# Altium footprint library SN74LVC4245ADBR.PcbLib: 3 footprints
Each footprint in its own frame and in the unit in brackets; x right, y up, seen from the top. Pads: shape width x height; smd on the part's side, far side on the other; paste and mask are expansions set on the pad; w line width, h text height; cw(c..) or ccw(c..) is an arc to the next point about the centre after c.
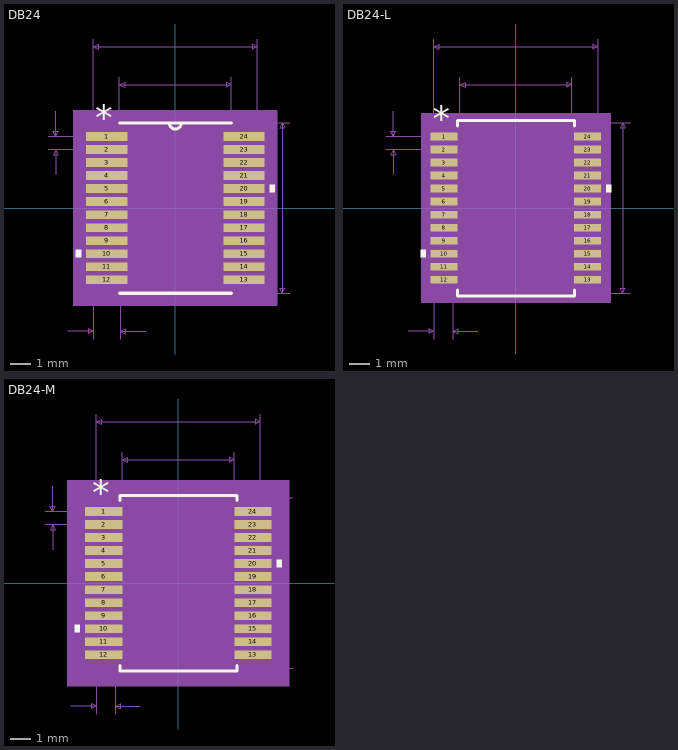
[diagram p0: the footprints below, top view; thin cyan lines are the x and y axes]

## DB24 [mil]
pads (24):
  rect 81x17 smd: 1(-135,140.75) 2(-135,115.16) 3(-135,89.57) 4(-135,63.98) 5(-135,38.39) 6(-135,12.8) 7(-135,-12.8) 8(-135,-38.39) 9(-135,-63.98) 10(-135,-89.57) 11(-135,-115.16) 12(-135,-140.75) 13(135,-140.75) 14(135,-115.16) 15(135,-89.57) 16(135,-63.98) 17(135,-38.39) 18(135,-12.8) 19(135,12.8) 20(135,38.39) 21(135,63.98) 22(135,89.57) 23(135,115.16) 24(135,140.75)
Top Overlay:
  region: -185.5,-82.07 -195.5,-82.07 -195.5,-97.07 -185.5,-97.07
  region: 185.5,45.89 195.5,45.89 195.5,30.89 185.5,30.89
  lines w6: -110,-167.5 110,-167.5 ; -110,167.5 110,167.5 ; -12,167.5 ccw(c0,167.5) 12,167.5
  text "*" at -157.5,152.75 h50
Mechanical 5:
  region: 200.5,-192.5 -200.5,-192.5 -200.5,192.5 200.5,192.5
Mechanical 7:
  lines w1: -250,115.16 -135,115.16 ; -250,140.75 -135,140.75 ; -235,65.16 -235,115.16 ; -235,190.75 -235,140.75 ; -211.5,-242.5 -161.5,-242.5 ; -161.5,-257.5 -161.5,0 -161.5,332.5 ; -110,0 -110,257.5 ; -108.5,-257.5 -108.5,0 ; -58.5,-242.5 -108.5,-242.5 ; 0,-167.5 225,-167.5 ; 0,167.5 225,167.5 ; 110,0 110,257.5 ; 161.5,0 161.5,332.5 ; -235,115.16 -240,105.16 -230,105.16 -235,115.16 ; -235,140.75 -240,150.75 -230,150.75 -235,140.75 ; -161.5,-242.5 -171.5,-237.5 -171.5,-247.5 -161.5,-242.5 ; -161.5,317.5 161.5,317.5 ; -161.5,317.5 -151.5,322.5 -151.5,312.5 -161.5,317.5 ; -110,242.5 110,242.5 ; -110,242.5 -100,247.5 -100,237.5 -110,242.5 ; -108.5,-242.5 -98.5,-237.5 -98.5,-247.5 -108.5,-242.5 ; 110,242.5 100,247.5 100,237.5 110,242.5 ; 161.5,317.5 151.5,322.5 151.5,312.5 161.5,317.5 ; 210,-167.5 210,167.5 ; 210,-167.5 205,-157.5 215,-157.5 210,-167.5 ; 210,167.5 205,157.5 215,157.5 210,167.5
  text "Default Padstyle: RX81Y17D0T" at -350,-367.5 h50
  text "Pin One Padstyle: RX81Y17D0T" at -350,-442.5 h50
  text "Alt 1 Padstyle: OX60Y90D30P" at -337.5,-517.5 h50
  text "Alt 2 Padstyle: OX90Y60D30P" at -337.5,-592.5 h50
  text ".22in/5.588mm" at -81.25,262.5 h25
  text ".323in/8.204mm" at -87.5,337.5 h25
  text ".335in/8.509mm" at 230,-12.5 h25
  text "2.559055E-02in/.65mm" at -505,115.45 h25
  text ".037in/.94mm" at -210,-287.5 h25
Mechanical 13:
  lines w0: -12,167.5 ccw(c0,167.5) 12,167.5
  lines w1: -161.5,-148.25 -161.5,-133.25 -110,-133.25 -110,-148.25 -161.5,-148.25 ; -161.5,-122.66 -161.5,-107.66 -110,-107.66 -110,-122.66 -161.5,-122.66 ; -161.5,-97.07 -161.5,-82.07 -110,-82.07 -110,-97.07 -161.5,-97.07 ; -161.5,-71.48 -161.5,-56.48 -110,-56.48 -110,-71.48 -161.5,-71.48 ; -161.5,-45.89 -161.5,-30.89 -110,-30.89 -110,-45.89 -161.5,-45.89 ; -161.5,-20.3 -161.5,-5.3 -110,-5.3 -110,-20.3 -161.5,-20.3 ; -161.5,5.3 -161.5,20.3 -110,20.3 -110,5.3 -161.5,5.3 ; -161.5,30.89 -161.5,45.89 -110,45.89 -110,30.89 -161.5,30.89 ; -161.5,56.48 -161.5,71.48 -110,71.48 -110,56.48 -161.5,56.48 ; -161.5,82.07 -161.5,97.07 -110,97.07 -110,82.07 -161.5,82.07 ; -161.5,107.66 -161.5,122.66 -110,122.66 -110,107.66 -161.5,107.66 ; -161.5,133.25 -161.5,148.25 -110,148.25 -110,133.25 -161.5,133.25 ; -110,-167.5 110,-167.5 110,167.5 -110,167.5 -110,-167.5 ; 110,-148.25 110,-133.25 161.5,-133.25 161.5,-148.25 110,-148.25 ; 110,-122.66 110,-107.66 161.5,-107.66 161.5,-122.66 110,-122.66 ; 110,-97.07 110,-82.07 161.5,-82.07 161.5,-97.07 110,-97.07 ; 110,-71.48 110,-56.48 161.5,-56.48 161.5,-71.48 110,-71.48 ; 110,-45.89 110,-30.89 161.5,-30.89 161.5,-45.89 110,-45.89 ; 110,-20.3 110,-5.3 161.5,-5.3 161.5,-20.3 110,-20.3 ; 110,5.3 110,20.3 161.5,20.3 161.5,5.3 110,5.3 ; 110,30.89 110,45.89 161.5,45.89 161.5,30.89 110,30.89 ; 110,56.48 110,71.48 161.5,71.48 161.5,56.48 110,56.48 ; 110,82.07 110,97.07 161.5,97.07 161.5,82.07 110,82.07 ; 110,107.66 110,122.66 161.5,122.66 161.5,107.66 110,107.66 ; 110,133.25 110,148.25 161.5,148.25 161.5,133.25 110,133.25
  text "*" at -157.5,152.75 h50
Mechanical 15:
  region: 185.5,-177.5 -185.5,-177.5 -185.5,177.5 185.5,177.5
  lines w6: -185.5,-177.5 -185.5,177.5 185.5,177.5 185.5,-177.5 -185.5,-177.5
3D body: height 10, standoff 0, extent 0,0 10,10

## DB24-L [mil]
pads (24):
  rect 53x15 smd paste+0 mask+0: 1(-141,140.75) 2(-141,115.16) 3(-141,89.57) 4(-141,63.98) 5(-141,38.39) 6(-141,12.8) 7(-141,-12.8) 8(-141,-38.39) 9(-141,-63.98) 10(-141,-89.57) 11(-141,-115.16) 12(-141,-140.75) 13(141,-140.75) 14(141,-115.16) 15(141,-89.57) 16(141,-63.98) 17(141,-38.39) 18(141,-12.8) 19(141,12.8) 20(141,38.39) 21(141,63.98) 22(141,89.57) 23(141,115.16) 24(141,140.75)
Top Overlay:
  region: -177.5,-82.07 -187.5,-82.07 -187.5,-97.07 -177.5,-97.07
  region: 177.5,45.89 187.5,45.89 187.5,30.89 177.5,30.89
  lines w6: -115,-161.35 -115,-172.5 115,-172.5 115,-161.35 ; -115,161.35 -115,172.5 115,172.5 115,161.35
  text "*" at -163.5,150.75 h50
Mechanical 5:
  region: 186.5,-186.5 -186.5,-186.5 -186.5,186.5 186.5,186.5
Mechanical 7:
  lines w1: -256,115.16 -141,115.16 ; -256,140.75 -141,140.75 ; -241,65.16 -241,115.16 ; -241,190.75 -241,140.75 ; -211.5,-242.5 -161.5,-242.5 ; -161.5,-257.5 -161.5,0 -161.5,332.5 ; -124.5,-257.5 -124.5,0 ; -110,0 -110,257.5 ; -74.5,-242.5 -124.5,-242.5 ; 0,-167.5 225,-167.5 ; 0,167.5 225,167.5 ; 110,0 110,257.5 ; 161.5,0 161.5,332.5 ; -241,115.16 -246,105.16 -236,105.16 -241,115.16 ; -241,140.75 -246,150.75 -236,150.75 -241,140.75 ; -161.5,-242.5 -171.5,-237.5 -171.5,-247.5 -161.5,-242.5 ; -161.5,317.5 161.5,317.5 ; -161.5,317.5 -151.5,322.5 -151.5,312.5 -161.5,317.5 ; -124.5,-242.5 -114.5,-237.5 -114.5,-247.5 -124.5,-242.5 ; -110,242.5 110,242.5 ; -110,242.5 -100,247.5 -100,237.5 -110,242.5 ; 110,242.5 100,247.5 100,237.5 110,242.5 ; 161.5,317.5 151.5,322.5 151.5,312.5 161.5,317.5 ; 210,-167.5 210,167.5 ; 210,-167.5 205,-157.5 215,-157.5 210,-167.5 ; 210,167.5 205,157.5 215,157.5 210,167.5
  text "Default Padstyle: RX53Y15D0T" at -350,-367.5 h50
  text "Pin One Padstyle: RX53Y15D0T" at -350,-427.5 h50
  text "Alt 1 Padstyle: OX60Y90D30P" at -337.5,-607.5 h50
  text "Alt 2 Padstyle: OX90Y60D30P" at -337.5,-667.5 h50
  text "0.22in/5.588mm" at -87.5,262.5 h25
  text "0.323in/8.204mm" at -93.75,337.5 h25
  text "0.335in/8.509mm" at 230,-12.5 h25
  text "0.026in/0.65mm" at -436,115.45 h25
  text "0.037in/0.94mm" at -230.5,-287.5 h25
Mechanical 13:
  lines w0: -12,167.5 ccw(c0,167.5) 12,167.5
  lines w1: -161.5,-148.25 -161.5,-133.25 -110,-133.25 -110,-148.25 -161.5,-148.25 ; -161.5,-122.66 -161.5,-107.66 -110,-107.66 -110,-122.66 -161.5,-122.66 ; -161.5,-97.07 -161.5,-82.07 -110,-82.07 -110,-97.07 -161.5,-97.07 ; -161.5,-71.48 -161.5,-56.48 -110,-56.48 -110,-71.48 -161.5,-71.48 ; -161.5,-45.89 -161.5,-30.89 -110,-30.89 -110,-45.89 -161.5,-45.89 ; -161.5,-20.3 -161.5,-5.3 -110,-5.3 -110,-20.3 -161.5,-20.3 ; -161.5,5.3 -161.5,20.3 -110,20.3 -110,5.3 -161.5,5.3 ; -161.5,30.89 -161.5,45.89 -110,45.89 -110,30.89 -161.5,30.89 ; -161.5,56.48 -161.5,71.48 -110,71.48 -110,56.48 -161.5,56.48 ; -161.5,82.07 -161.5,97.07 -110,97.07 -110,82.07 -161.5,82.07 ; -161.5,107.66 -161.5,122.66 -110,122.66 -110,107.66 -161.5,107.66 ; -161.5,133.25 -161.5,148.25 -110,148.25 -110,133.25 -161.5,133.25 ; -110,-167.5 110,-167.5 110,167.5 -110,167.5 -110,-167.5 ; 110,-148.25 110,-133.25 161.5,-133.25 161.5,-148.25 110,-148.25 ; 110,-122.66 110,-107.66 161.5,-107.66 161.5,-122.66 110,-122.66 ; 110,-97.07 110,-82.07 161.5,-82.07 161.5,-97.07 110,-97.07 ; 110,-71.48 110,-56.48 161.5,-56.48 161.5,-71.48 110,-71.48 ; 110,-45.89 110,-30.89 161.5,-30.89 161.5,-45.89 110,-45.89 ; 110,-20.3 110,-5.3 161.5,-5.3 161.5,-20.3 110,-20.3 ; 110,5.3 110,20.3 161.5,20.3 161.5,5.3 110,5.3 ; 110,30.89 110,45.89 161.5,45.89 161.5,30.89 110,30.89 ; 110,56.48 110,71.48 161.5,71.48 161.5,56.48 110,56.48 ; 110,82.07 110,97.07 161.5,97.07 161.5,82.07 110,82.07 ; 110,107.66 110,122.66 161.5,122.66 161.5,107.66 110,107.66 ; 110,133.25 110,148.25 161.5,148.25 161.5,133.25 110,133.25
  text "*" at -107.5,114.5 h50
Mechanical 15:
  region: -114,-152.25 -171.5,-152.25 -171.5,152.25 -114,152.25 -114,171.5 114,171.5 114,152.25 171.5,152.25 171.5,-152.25 114,-152.25 114,-171.5 -114,-171.5
  lines w6: -171.5,-152.25 -171.5,152.25 -114,152.25 -114,171.5 114,171.5 114,152.25 171.5,152.25 171.5,-152.25 114,-152.25 114,-171.5 -114,-171.5 -114,-152.25 -171.5,-152.25
3D body: height 10, standoff 0, extent 0,0 10,10

## DB24-M [mil]
pads (24):
  rect 73.5x17 smd paste+0 mask+0: 1(-146.75,140.75) 2(-146.75,115.16) 3(-146.75,89.57) 4(-146.75,63.98) 5(-146.75,38.39) 6(-146.75,12.8) 7(-146.75,-12.8) 8(-146.75,-38.39) 9(-146.75,-63.98) 10(-146.75,-89.57) 11(-146.75,-115.16) 12(-146.75,-140.75) 13(146.75,-140.75) 14(146.75,-115.16) 15(146.75,-89.57) 16(146.75,-63.98) 17(146.75,-38.39) 18(146.75,-12.8) 19(146.75,12.8) 20(146.75,38.39) 21(146.75,63.98) 22(146.75,89.57) 23(146.75,115.16) 24(146.75,140.75)
Top Overlay:
  region: -193.5,-82.07 -203.5,-82.07 -203.5,-97.07 -193.5,-97.07
  region: 193.5,45.89 203.5,45.89 203.5,30.89 193.5,30.89
  lines w6: -115,-162.35 -115,-172.5 115,-172.5 115,-162.35 ; -115,162.35 -115,172.5 115,172.5 115,162.35
  text "*" at -169.25,152.75 h50
Mechanical 5:
  region: 218.5,-202.5 -218.5,-202.5 -218.5,202.5 218.5,202.5
Mechanical 7:
  lines w1: -261.75,115.16 -146.75,115.16 ; -261.75,140.75 -146.75,140.75 ; -246.75,65.16 -246.75,115.16 ; -246.75,190.75 -246.75,140.75 ; -211.5,-242.5 -161.5,-242.5 ; -161.5,-257.5 -161.5,0 -161.5,332.5 ; -124.5,-257.5 -124.5,0 ; -110,0 -110,257.5 ; -74.5,-242.5 -124.5,-242.5 ; 0,-167.5 225,-167.5 ; 0,167.5 225,167.5 ; 110,0 110,257.5 ; 161.5,0 161.5,332.5 ; -246.75,115.16 -251.75,105.16 -241.75,105.16 -246.75,115.16 ; -246.75,140.75 -251.75,150.75 -241.75,150.75 -246.75,140.75 ; -161.5,-242.5 -171.5,-237.5 -171.5,-247.5 -161.5,-242.5 ; -161.5,317.5 161.5,317.5 ; -161.5,317.5 -151.5,322.5 -151.5,312.5 -161.5,317.5 ; -124.5,-242.5 -114.5,-237.5 -114.5,-247.5 -124.5,-242.5 ; -110,242.5 110,242.5 ; -110,242.5 -100,247.5 -100,237.5 -110,242.5 ; 110,242.5 100,247.5 100,237.5 110,242.5 ; 161.5,317.5 151.5,322.5 151.5,312.5 161.5,317.5 ; 210,-167.5 210,167.5 ; 210,-167.5 205,-157.5 215,-157.5 210,-167.5 ; 210,167.5 205,157.5 215,157.5 210,167.5
  text "Default Padstyle: RX73p5Y17D0T" at -375,-367.5 h50
  text "Pin One Padstyle: RX73p5Y17D0T" at -375,-427.5 h50
  text "Alt 1 Padstyle: OX60Y90D30P" at -337.5,-607.5 h50
  text "Alt 2 Padstyle: OX90Y60D30P" at -337.5,-667.5 h50
  text "0.22in/5.588mm" at -87.5,262.5 h25
  text "0.323in/8.204mm" at -93.75,337.5 h25
  text "0.335in/8.509mm" at 230,-12.5 h25
  text "0.026in/0.65mm" at -441.75,115.45 h25
  text "0.037in/0.94mm" at -230.5,-287.5 h25
Mechanical 13:
  lines w0: -12,167.5 ccw(c0,167.5) 12,167.5
  lines w1: -161.5,-148.25 -161.5,-133.25 -110,-133.25 -110,-148.25 -161.5,-148.25 ; -161.5,-122.66 -161.5,-107.66 -110,-107.66 -110,-122.66 -161.5,-122.66 ; -161.5,-97.07 -161.5,-82.07 -110,-82.07 -110,-97.07 -161.5,-97.07 ; -161.5,-71.48 -161.5,-56.48 -110,-56.48 -110,-71.48 -161.5,-71.48 ; -161.5,-45.89 -161.5,-30.89 -110,-30.89 -110,-45.89 -161.5,-45.89 ; -161.5,-20.3 -161.5,-5.3 -110,-5.3 -110,-20.3 -161.5,-20.3 ; -161.5,5.3 -161.5,20.3 -110,20.3 -110,5.3 -161.5,5.3 ; -161.5,30.89 -161.5,45.89 -110,45.89 -110,30.89 -161.5,30.89 ; -161.5,56.48 -161.5,71.48 -110,71.48 -110,56.48 -161.5,56.48 ; -161.5,82.07 -161.5,97.07 -110,97.07 -110,82.07 -161.5,82.07 ; -161.5,107.66 -161.5,122.66 -110,122.66 -110,107.66 -161.5,107.66 ; -161.5,133.25 -161.5,148.25 -110,148.25 -110,133.25 -161.5,133.25 ; -110,-167.5 110,-167.5 110,167.5 -110,167.5 -110,-167.5 ; 110,-148.25 110,-133.25 161.5,-133.25 161.5,-148.25 110,-148.25 ; 110,-122.66 110,-107.66 161.5,-107.66 161.5,-122.66 110,-122.66 ; 110,-97.07 110,-82.07 161.5,-82.07 161.5,-97.07 110,-97.07 ; 110,-71.48 110,-56.48 161.5,-56.48 161.5,-71.48 110,-71.48 ; 110,-45.89 110,-30.89 161.5,-30.89 161.5,-45.89 110,-45.89 ; 110,-20.3 110,-5.3 161.5,-5.3 161.5,-20.3 110,-20.3 ; 110,5.3 110,20.3 161.5,20.3 161.5,5.3 110,5.3 ; 110,30.89 110,45.89 161.5,45.89 161.5,30.89 110,30.89 ; 110,56.48 110,71.48 161.5,71.48 161.5,56.48 110,56.48 ; 110,82.07 110,97.07 161.5,97.07 161.5,82.07 110,82.07 ; 110,107.66 110,122.66 161.5,122.66 161.5,107.66 110,107.66 ; 110,133.25 110,148.25 161.5,148.25 161.5,133.25 110,133.25
  text "*" at -107.5,114.5 h50
Mechanical 15:
  region: -130,-169.25 -203.5,-169.25 -203.5,169.25 -130,169.25 -130,187.5 130,187.5 130,169.25 203.5,169.25 203.5,-169.25 130,-169.25 130,-187.5 -130,-187.5
  lines w6: -203.5,-169.25 -203.5,169.25 -130,169.25 -130,187.5 130,187.5 130,169.25 203.5,169.25 203.5,-169.25 130,-169.25 130,-187.5 -130,-187.5 -130,-169.25 -203.5,-169.25
3D body: height 10, standoff 0, extent 0,0 10,10